# Altium schematic symbol library MOSFET,N Ch,150V,76A.Schlib: 1 symbol
Pins are listed as number, name and electrical type; pins without a type are passive.

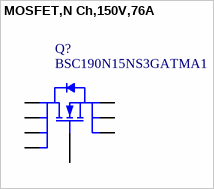
[diagram p0: symbol MOSFET,N Ch,150V,76A]

## MOSFET,N Ch,150V,76A
designator Q?, comment BSC190N15NS3GATMA1
MOSFET N-CH 150V 76A 8TDSON
pins: 1 S, 2 S, 3 S, 4 G, 5 D, 6 D, 7 D, 8 D